# EAGLE library part CDD3WS0512D (library DC-DC menice)
DC/DC menic 3W dva výstupy
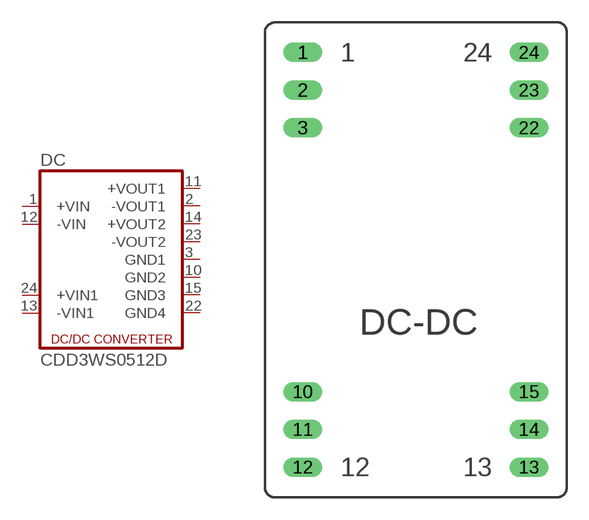
[diagram p2: symbol with the pads of DCW; footprint DCW]

Designator prefix DC

## CDD3WS0512D  [DCW]
1  +VIN  pas
2  -VOUT1  pas
3  GND1  pas
10  GND2  pas
11  +VOUT1  pas
12  -VIN  pas
13  -VIN1  pas
14  +VOUT2  pas
15  GND3  pas
22  GND4  pas
23  -VOUT2  pas
24  +VIN1  pas

## Footprint DCW (pad centres in mm)
DC-DC CONVERTER
drill 0.813 long: 1 -7.62,13.97; 2 -7.62,11.43; 3 -7.62,8.89; 10 -7.62,-8.89; 11 -7.62,-11.43; 12 -7.62,-13.97; 13 7.62,-13.97; 14 7.62,-11.43; 15 7.62,-8.89; 22 7.62,8.89; 23 7.62,11.43; 24 7.62,13.97